# Altium footprint library ECGHeartLib.Pcblib: 13 footprints
Each footprint in its own frame and in the unit in brackets; x right, y up, seen from the top. Pads: shape width x height; smd on the part's side, far side on the other; paste and mask are expansions set on the pad; w line width, h text height; cw(c..) or ccw(c..) is an arc to the next point about the centre after c.
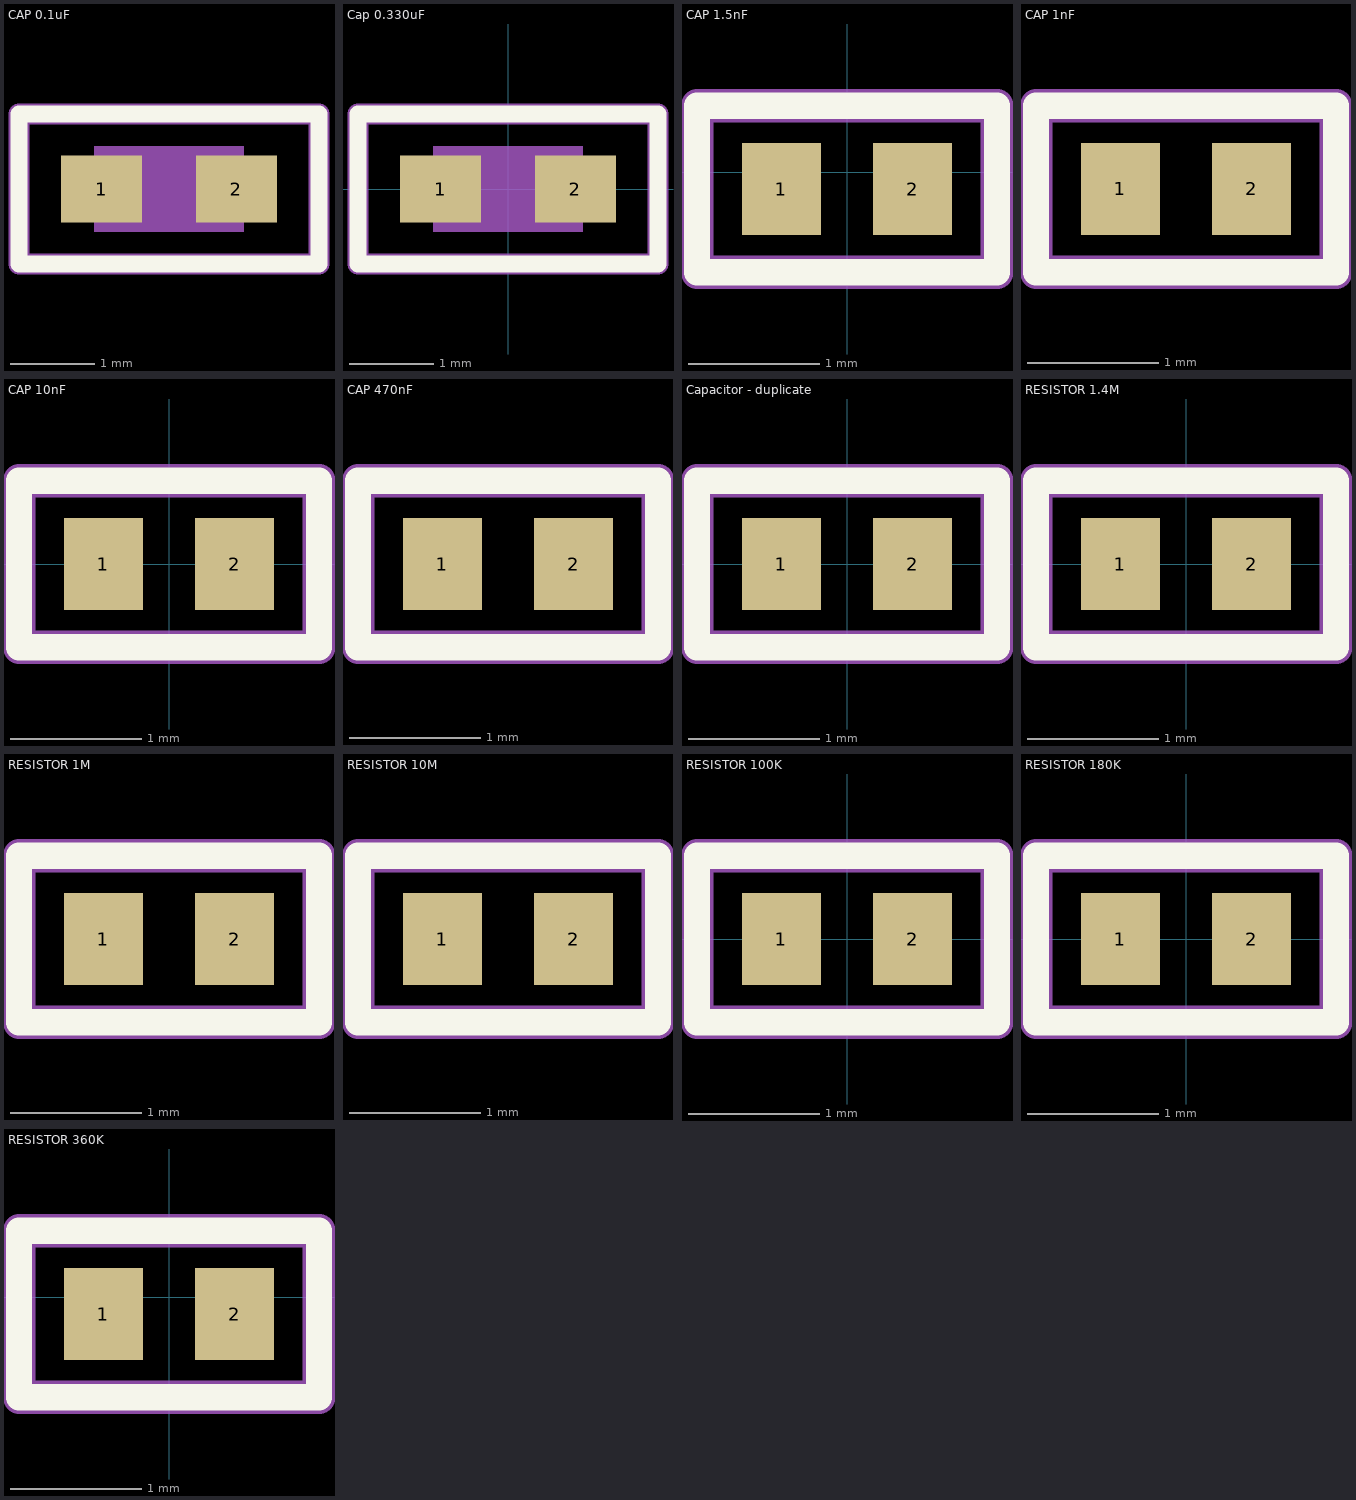
[diagram p0: the footprints below, top view; thin cyan lines are the x and y axes]

## CAP 0.1uF [mm]
pads (2):
  rect 0.965x0.8 smd: 1(-534.2,-41.529) 2(-532.6,-41.529)
Top Overlay:
  lines w0.2: -535.178,-42.418 -531.622,-42.418 -531.622,-40.64 -535.178,-40.64 -535.178,-42.418
Mechanical 1:
  lines w0.254: -535.178,-42.418 -535.178,-40.64 -531.622,-40.64 -531.622,-42.418 -535.178,-42.418
  text "'.designator" at -534.416,-41.021 h0.2
Mechanical 2 - CAD:
  rectangle: -534.289,-42.037 -532.511,-41.021

## Cap 0.330uF [mm]
pads (2):
  rect 0.965x0.8 smd: 1(-0.8,0) 2(0.8,0)
Top Overlay:
  lines w0.2: -1.778,-0.889 1.778,-0.889 1.778,0.889 -1.778,0.889 -1.778,-0.889
Mechanical 1:
  lines w0.254: -1.778,-0.889 -1.778,0.889 1.778,0.889 1.778,-0.889 -1.778,-0.889
  text "'.designator" at -1.016,0.508 h0.2
Mechanical 2 - CAD:
  rectangle: -0.889,-0.508 0.889,0.508

## CAP 1.5nF [mm]
pads (2):
  rect 0.6x0.7 smd: 1(-0.5,-0.127) 2(0.5,-0.127)
Top Overlay:
  lines w0.2: -1.143,-0.762 1.143,-0.762 1.143,0.508 -1.143,0.508 -1.143,-0.762
Mechanical 1:
  lines w0.254: -1.143,-0.762 -1.143,0.508 1.143,0.508 1.143,-0.762 -1.143,-0.762
  text "'.designator'" at -1.143,-0.127 h0.2

## CAP 1nF [mm]
pads (2):
  rect 0.6x0.7 smd: 1(17.153,73.787) 2(18.153,73.787)
Top Overlay:
  lines w0.2: 16.51,73.152 18.796,73.152 18.796,74.422 16.51,74.422 16.51,73.152
Mechanical 1:
  lines w0.254: 16.51,73.152 16.51,74.422 18.796,74.422 18.796,73.152 16.51,73.152
  text "'.designator'" at 16.51,73.787 h0.2

## CAP 10nF [mm]
pads (2):
  rect 0.6x0.7 smd: 1(-0.5,0) 2(0.5,0)
Top Overlay:
  lines w0.2: -1.143,-0.635 1.143,-0.635 1.143,0.635 -1.143,0.635 -1.143,-0.635
Mechanical 1:
  lines w0.254: -1.143,-0.635 -1.143,0.635 1.143,0.635 1.143,-0.635 -1.143,-0.635
  text "'.designator'" at -1.143,0 h0.2

## CAP 470nF [mm]
pads (2):
  rect 0.6x0.7 smd: 1(2.675,-2.413) 2(3.675,-2.413)
Top Overlay:
  lines w0.2: 2.032,-3.048 2.032,-1.778 4.318,-1.778 4.318,-3.048 2.032,-3.048
Mechanical 1:
  lines w0.254: 2.032,-3.048 4.318,-3.048 4.318,-1.778 2.032,-1.778 2.032,-3.048
  text "'.designator'" at 2.032,-2.413 h0.2

## Capacitor - duplicate [mm]
pads (2):
  rect 0.6x0.7 smd: 1(-0.5,0) 2(0.5,0)
Top Overlay:
  lines w0.2: -1.143,-0.635 -1.143,0.635 1.143,0.635 1.143,-0.635 -1.143,-0.635
Mechanical 1:
  lines w0.254: -1.143,-0.635 1.143,-0.635 1.143,0.635 -1.143,0.635 -1.143,-0.635
  text "'.designator'" at -1.143,0 h0.2

## RESISTOR 1.4M [mm]
pads (2):
  rect 0.6x0.7 smd: 1(-0.5,0) 2(0.5,0)
Top Overlay:
  lines w0.2: -1.143,-0.635 1.143,-0.635 1.143,0.635 -1.143,0.635 -1.143,-0.635
Mechanical 1:
  lines w0.254: -1.143,-0.635 -1.143,0.635 1.143,0.635 1.143,-0.635 -1.143,-0.635
  text "'.designator'" at -1.143,0 h0.2

## RESISTOR 1M [mm]
pads (2):
  rect 0.6x0.7 smd: 1(1.786,-1.778) 2(2.786,-1.778)
Top Overlay:
  lines w0.2: 1.143,-2.413 3.429,-2.413 3.429,-1.143 1.143,-1.143 1.143,-2.413
Mechanical 1:
  lines w0.254: 1.143,-2.413 1.143,-1.143 3.429,-1.143 3.429,-2.413 1.143,-2.413
  text "'.designator'" at 1.143,-1.778 h0.2

## RESISTOR 10M [mm]
pads (2):
  rect 0.6x0.7 smd: 1(2.675,-2.54) 2(3.675,-2.54)
Top Overlay:
  lines w0.2: 2.032,-3.175 4.318,-3.175 4.318,-1.905 2.032,-1.905 2.032,-3.175
Mechanical 1:
  lines w0.254: 2.032,-3.175 2.032,-1.905 4.318,-1.905 4.318,-3.175 2.032,-3.175
  text "'.designator'" at 2.032,-2.54 h0.2

## RESISTOR 100K [mm]
pads (2):
  rect 0.6x0.7 smd: 1(-0.5,0) 2(0.5,0)
Top Overlay:
  lines w0.2: -1.143,-0.635 1.143,-0.635 1.143,0.635 -1.143,0.635 -1.143,-0.635
Mechanical 1:
  lines w0.254: -1.143,-0.635 -1.143,0.635 1.143,0.635 1.143,-0.635 -1.143,-0.635
  text "'.designator'" at -1.143,0 h0.2

## RESISTOR 180K [mm]
pads (2):
  rect 0.6x0.7 smd: 1(-0.5,0) 2(0.5,0)
Top Overlay:
  lines w0.2: -1.143,-0.635 1.143,-0.635 1.143,0.635 -1.143,0.635 -1.143,-0.635
Mechanical 1:
  lines w0.254: -1.143,-0.635 -1.143,0.635 1.143,0.635 1.143,-0.635 -1.143,-0.635
  text "'.designator'" at -1.143,0 h0.2

## RESISTOR 360K [mm]
pads (2):
  rect 0.6x0.7 smd: 1(-0.5,-0.127) 2(0.5,-0.127)
Top Overlay:
  lines w0.2: -1.143,-0.762 1.143,-0.762 1.143,0.508 -1.143,0.508 -1.143,-0.762
Mechanical 1:
  lines w0.254: -1.143,-0.762 -1.143,0.508 1.143,0.508 1.143,-0.762 -1.143,-0.762
  text "'.designator'" at -1.143,-0.127 h0.2